# Altium schematic symbol library ST485BDR.SchLib: 1 symbol
Pins are listed as number, name and electrical type; pins without a type are passive.

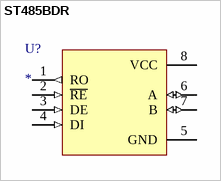
[diagram p0: symbol ST485BDR]

## ST485BDR
designator U?
Value: *
pins: 1 RO (out), 2 ~{RE} (in), 3 DE (in), 4 DI (in), 5 GND, 6 A (io), 7 B (io), 8 VCC (power)